# EAGLE library part AT24CM01-XHD-B (library Memory)
IC EEPROM 1MBIT I2C 1MHZ 8TSSOP Manufacturer's datasheet <https://ww1.microchip.com/downloads/en/DeviceDoc/AT24CM01-I2C-Compatible-Two-Wire-Serial-EEPROM-Data-Sheet-20006170A.pdf>
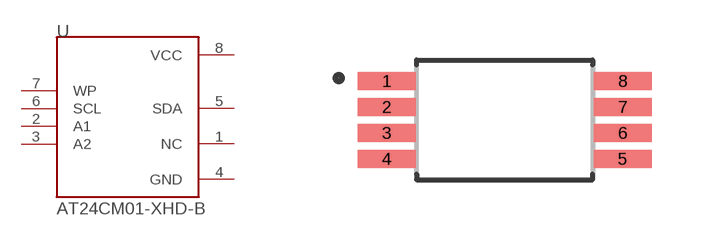
[diagram p21: symbol with the pads of TSSOP8; footprint TSSOP8]

Designator prefix U

## AT24CM01-XHD-B (CREATED_BY: PCBLayout.com; DIGIKEY_PARTNO: AT24CM01-XHD-B-ND; MANUFACTURER: Microchip Technology; MPN: AT24CM01-XHD-B; PACKAGE: 8TSSOP)  [TSSOP8]
1  NC  nc
2  A1  in
3  A2  in
4  GND  pwr
5  SDA
6  SCL  in
7  WP  in
8  VCC  pwr

## Footprint TSSOP8 (pad centres in mm)
smd 1.45 x 0.45: 1 -2.95,0.975; 2 -2.95,0.325; 3 -2.95,-0.325; 4 -2.95,-0.975; 5 2.95,-0.975; 6 2.95,-0.325; 7 2.95,0.325; 8 2.95,0.975